# EAGLE library part LM5101BMAX (library LM5101BMAX)
Gate Driver
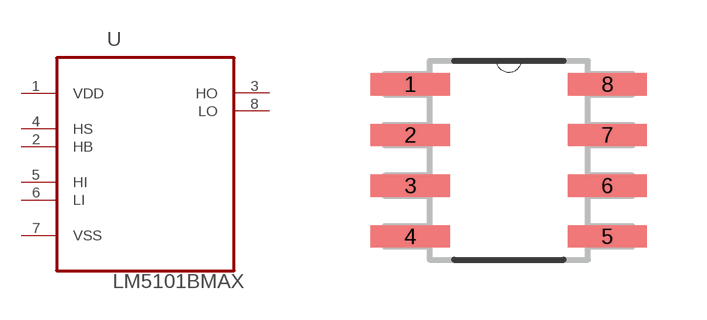
[diagram p0: symbol with the pads of SOIC127P600X175-8N; footprint SOIC127P600X175-8N]

Designator prefix U

## LM5101BMAX (AVAILABILITY: Unavailable; DESCRIPTION: 2A High Voltage High-Side and Low-Side Gate Driver 8-SOIC -40 to 125; MF: Texas Instruments; MP: LM5101BMAX; PACKAGE: SOIC-8 Texas Instruments; PRICE: None)  [SOIC127P600X175-8N]
1  VDD  pwr
2  HB  pas
3  HO  out
4  HS  pas
5  HI  in
6  LI  in
7  VSS  pas
8  LO  out

## Footprint SOIC127P600X175-8N (pad centres in mm)
smd 1.981 x 0.559: 1 -2.464,1.905; 2 -2.464,0.635; 3 -2.464,-0.635; 4 -2.464,-1.905; 5 2.464,-1.905; 6 2.464,-0.635; 7 2.464,0.635; 8 2.464,1.905